# Altium footprint library Linear Technology.PcbLib: 5 footprints
Each footprint in its own frame and in the unit in brackets; x right, y up, seen from the top. Pads: shape width x height; smd on the part's side, far side on the other; paste and mask are expansions set on the pad; w line width, h text height; cw(c..) or ccw(c..) is an arc to the next point about the centre after c.
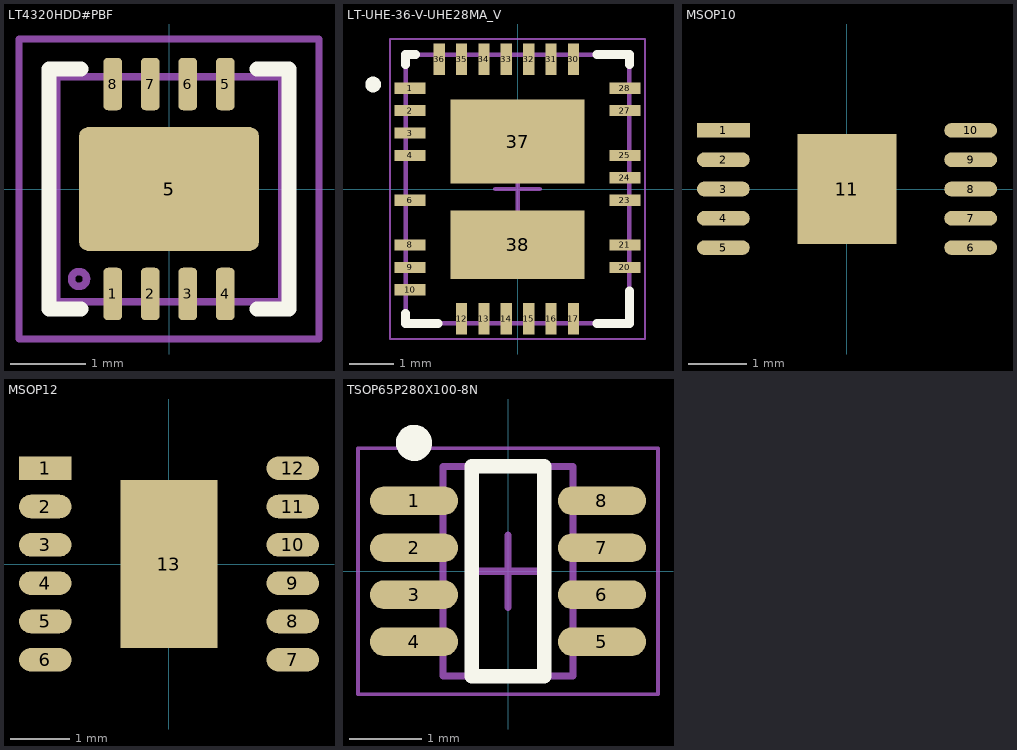
[diagram p0: the footprints below, top view; thin cyan lines are the x and y axes]

## LT4320HDD#PBF [mm] "Ideal Diode Bridge Controller"
height 0.8
pads (9):
  rrect50% 0.25x0.7 smd: 1(-0.75,-1.4) 2(-0.25,-1.4) 3(0.25,-1.4) 4(0.75,-1.4) 5(0.75,1.4) 6(0.25,1.4) 7(-0.25,1.4) 8(-0.75,1.4)
  rrect15% 2.4x1.65 smd: 5(0,0)
Top Overlay:
  lines w0.2: -1.175,-1.6 -1.6,-1.6 -1.6,-1.575 -1.6,1.6 -1.175,1.6 ; 1.175,-1.6 1.6,-1.6 1.6,1.6 1.175,1.6
Mechanical 13:
  circle w0.1: c-1.2,-1.2 r0.1
  lines w0.1: -1.5,-1.5 -1.5,1.5 1.5,1.5 1.5,-1.5 -1.5,-1.5
Mechanical 15:
  lines w0.1: -0.5,0 0.5,0 ; 0,-0.5 0,0.5 ; -2,-2 2,-2 2,2 -2,2 -2,-2
3D body: height 0.85, standoff 0.8, extent -1.198,-1.199 -0.8,-0.8
3D body: height 0.8, standoff 0, extent -1.5,-1.5 1.5,1.5

## LT-UHE-36-V-UHE28MA_V [mm] "QFN, 28-Leads, Body 6x5mm, Pitch 0.5mm"
height 0.8
pads (30):
  rect 0.7x0.25 smd: 1(-2.4,2.25) 2(-2.4,1.75) 3(-2.4,1.25) 4(-2.4,0.75) 6(-2.4,-0.25) 8(-2.4,-1.25) 9(-2.4,-1.75) 10(-2.4,-2.25) 20(2.4,-1.75) 21(2.4,-1.25) 23(2.4,-0.25) 24(2.4,0.25) 25(2.4,0.75) 27(2.4,1.75) 28(2.4,2.25)
  rect 0.25x0.7 smd: 12(-1.25,-2.9) 13(-0.75,-2.9) 14(-0.25,-2.9) 15(0.25,-2.9) 16(0.75,-2.9) 17(1.25,-2.9) 30(1.25,2.9) 31(0.75,2.9) 32(0.25,2.9) 33(-0.25,2.9) 34(-0.75,2.9) 35(-1.25,2.9) 36(-1.75,2.9)
  rect 3x1.88 smd: 37(0,1.06)
  rect 3x1.53 smd: 38(0,-1.245)
Top Overlay:
  circle w0.25: c-3.225,2.335 r0.05
  lines w0.2: -2.5,-2.775 -2.5,-3 -1.775,-3 ; -2.5,2.775 -2.5,3 -2.275,3 ; 1.775,-3 2.5,-3 2.5,-2.275 ; 1.775,3 2.5,3 2.5,2.775
Mechanical 13:
  lines w0.1: -2.5,-3 -2.5,3 2.5,3 2.5,-3 -2.5,-3
Mechanical 15:
  lines w0.05: -2.85,-3.35 2.85,-3.35 2.85,3.35 -2.85,3.35 -2.85,-3.35
  lines w0.1: -0.5,0 0.5,0 ; 0,-0.5 0,0.5
3D body: height 0.8, standoff 0, extent -2.5,-3 2.5,3

## MSOP10 [mm]
pads (11):
  rect 0.9x0.25 smd: 1(-2.107,1)
  oval 0.9x0.25 smd: 2(-2.107,0.5) 3(-2.107,0) 4(-2.107,-0.5) 5(-2.107,-1) 6(2.108,-1) 7(2.108,-0.5) 8(2.108,0) 9(2.108,0.5) 10(2.108,1)
  rect 1.68x1.88 smd: 11(0,0)
3D body: height 1.1, standoff 0.1, extent -1.5,-1.5 1.5,1.5

## MSOP12 [mm]
pads (13):
  rect 0.889x0.4 smd: 1(-2.1,1.625)
  oval 0.889x0.4 smd: 2(-2.1,0.975) 3(-2.1,0.325) 4(-2.1,-0.325) 5(-2.1,-0.975) 6(-2.1,-1.625) 7(2.1,-1.625) 8(2.1,-0.975) 9(2.1,-0.325) 10(2.1,0.325) 11(2.1,0.975) 12(2.1,1.625)
  rect 1.651x2.845 smd: 13(0,0)
3D body: height 1.1, standoff 0.1, extent -1.5,-2 1.5,2

## TSOP65P280X100-8N [mm] "TSOP, 8-Leads, Body 2,90x1,63mm, Pitch 0,65mm, IPC Medium Density"
height 1
pads (8):
  oval 1.22x0.4 smd: 1(-1.3,0.975) 2(-1.3,0.325) 3(-1.3,-0.325) 4(-1.3,-0.975) 5(1.3,-0.975) 6(1.3,-0.325) 7(1.3,0.325) 8(1.3,0.975)
Top Overlay:
  circle w0.25: c-1.3,1.775 r0.125
  lines w0.2: -0.5,-1.45 -0.5,1.45 0.5,1.45 0.5,-1.45 -0.5,-1.45
Mechanical 13:
  lines w0.1: -0.9,-1.45 -0.9,1.45 0.9,1.45 0.9,-1.45 -0.9,-1.45
Mechanical 15:
  lines w0.05: -2.075,-1.7 -2.075,1.7 2.075,1.7 2.075,-1.7 -2.075,-1.7
  lines w0.1: -0.5,0 0.5,0 ; 0,-0.5 0,0.5
3D body: height 1, standoff 0, extent -1.4,-1.45 1.4,1.45